# Altium footprint library JST-GH.PcbLib: 8 footprints
Each footprint in its own frame and in the unit in brackets; x right, y up, seen from the top. Pads: shape width x height; smd on the part's side, far side on the other; paste and mask are expansions set on the pad; w line width, h text height; cw(c..) or ccw(c..) is an arc to the next point about the centre after c.
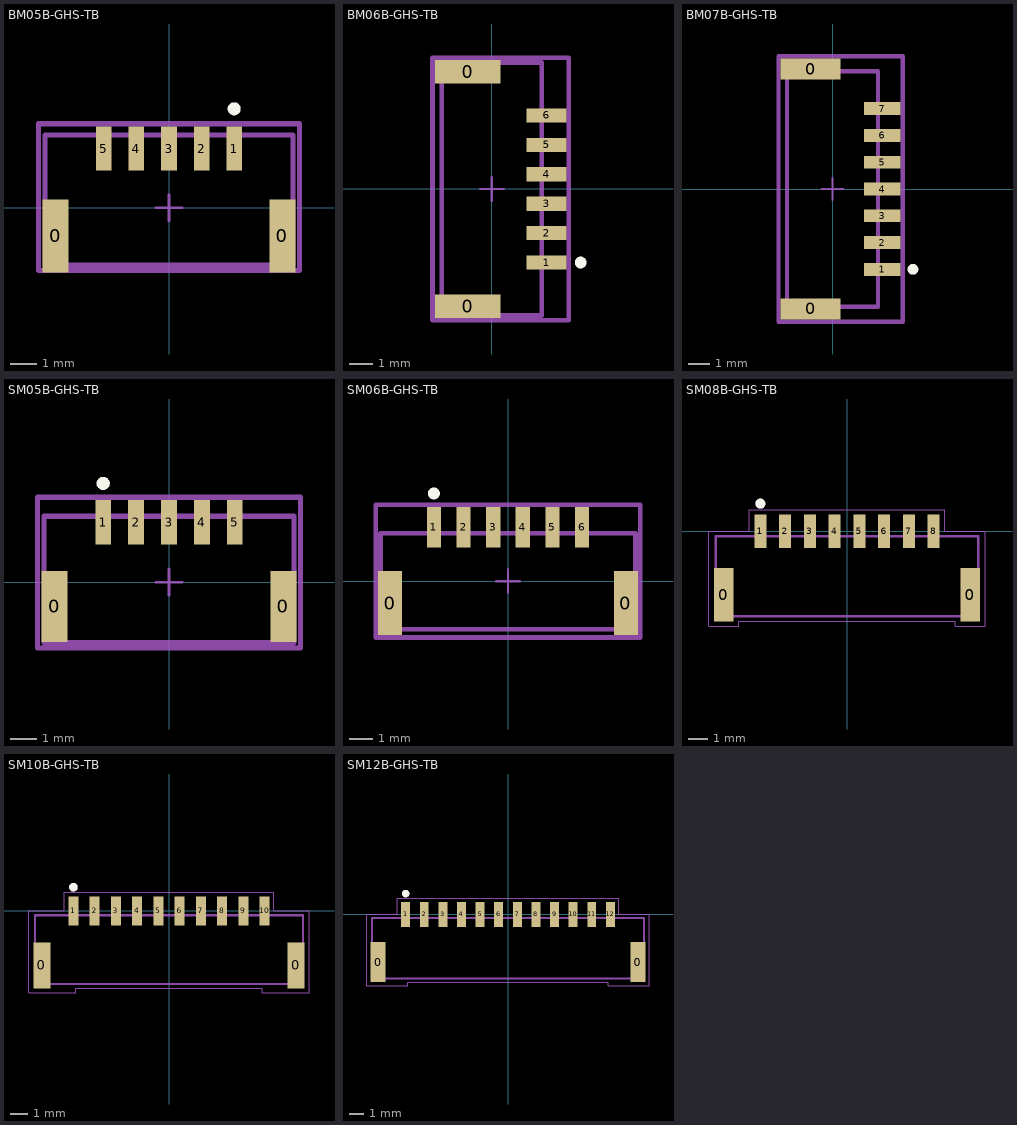
[diagram p0: the footprints below, top view; thin cyan lines are the x and y axes]

## BM05B-GHS-TB [mm]
height 4.064
pads (7):
  rect 1x2.8 smd paste+0 mask+0: 0(-4.35,-1.075) 0(4.35,-1.075)
  rect 0.6x1.7 smd paste+0 mask+0: 1(2.5,2.275) 2(1.25,2.275) 3(0,2.275) 4(-1.25,2.275) 5(-2.5,2.275)
Top Overlay:
  circle w0.25: c2.5,3.8 r0.125
Top 3D Body:
  lines w0.2: -4.75,-2.2 -4.75,2.8 4.75,2.8 4.75,-2.2 -4.75,-2.2
Top Courtyard:
  lines w0.2: -5,-2.4 -5,3.225 5,3.225 5,-2.4 -5,-2.4
Top Component Center:
  lines w0.1: -0.5,0 0.5,0 ; 0,-0.5 0,0.5
3D body "BM05B-GHS-TBT.STEP": height 4.05, standoff -0.15, extent -4.75,-2.175 4.75,2.775

## BM06B-GHS-TB [mm] "CONN HEADER SMD 6POS 1.25MM"
pads (8):
  rect 2.8x1 smd paste+0 mask+0: 0(-1.025,-4.975) 0(-1.025,4.975)
  rect 1.7x0.6 smd paste+0 mask+0: 1(2.325,-3.125) 2(2.325,-1.875) 3(2.325,-0.625) 4(2.325,0.625) 5(2.325,1.875) 6(2.325,3.125)
Top Overlay:
  circle w0.25: c3.775,-3.125 r0.125
Top 3D Body:
  lines w0.2: -2.125,-5.375 -2.125,5.375 2.125,5.375 2.125,-5.375 -2.125,-5.375
Top Courtyard:
  lines w0.2: -2.525,-5.575 -2.525,5.575 3.275,5.575 3.275,-5.575 -2.525,-5.575
Top Assembly:
  lines w0.2: -2.525,-5.575 -2.525,5.575 3.275,5.575 3.275,-5.575 -2.525,-5.575
Top Component Center:
  lines w0.1: -0.5,0 0.5,0 ; 0,-0.5 0,0.5
3D body "Conn_JST_BM06B-GHS-TBT_LF_SN_eec.STEP": height 0.25, standoff 0, extent -2.525,-5.575 3.275,5.575

## BM07B-GHS-TB [mm] "CONN HEADER SMD 7POS 1.25MM"
pads (9):
  rect 2.8x1 smd paste+0 mask+0: 0(-1.025,-5.6) 0(-1.025,5.6)
  rect 1.7x0.6 smd paste+0 mask+0: 1(2.325,-3.75) 2(2.325,-2.5) 3(2.325,-1.25) 4(2.325,0) 5(2.325,1.25) 6(2.325,2.5) 7(2.325,3.75)
Top Overlay:
  circle w0.25: c3.75,-3.75 r0.125
Top 3D Body:
  lines w0.2: -2.125,-5.5 -2.125,5.5 2.125,5.5 2.125,-5.5 -2.125,-5.5
Top Courtyard:
  lines w0.2: -2.525,-6.2 -2.525,6.2 3.275,6.2 3.275,-6.2 -2.525,-6.2
Top Assembly:
  lines w0.2: -2.525,-6.2 -2.525,6.2 3.275,6.2 3.275,-6.2 -2.525,-6.2
Top Component Center:
  lines w0.1: -0.5,0 0.5,0 ; 0,-0.5 0,0.5
3D body "BM07B-GHS-TBT.STEP": height 4.05, standoff -0.15, extent -2.125,-6 2.825,6

## SM05B-GHS-TB [mm]
height 4.064
pads (7):
  rect 1x2.7 smd paste+0 mask+0: 0(-4.35,-0.925) 0(4.35,-0.925)
  rect 0.6x1.7 smd paste+0 mask+0: 1(-2.5,2.275) 2(-1.25,2.275) 3(0,2.275) 4(1.25,2.275) 5(2.5,2.275)
Top Overlay:
  circle w0.25: c-2.5,3.75 r0.125
Top 3D Body:
  lines w0.2: -4.75,-2.3 4.75,-2.3 4.75,2.5 -4.75,2.5 -4.75,-2.3
Top Courtyard:
  lines w0.2: -5,-2.5 5,-2.5 5,3.225 -5,3.225 -5,-2.5
Top Component Center:
  lines w0.1: -0.5,0 0.5,0 ; 0,-0.5 0,0.5
3D body "SM05B-GHS-TB.STEP": height 4.25, standoff 0, extent -4.75,-2.298 4.75,2.552

## SM06B-GHS-TB [mm]
height 4.064
pads (8):
  rect 1x2.7 smd paste+0 mask+0: 0(-4.975,-0.925) 0(4.975,-0.925)
  rect 0.6x1.7 smd paste+0 mask+0: 1(-3.125,2.275) 2(-1.875,2.275) 3(-0.625,2.275) 4(0.625,2.275) 5(1.875,2.275) 6(3.125,2.275)
Top Overlay:
  circle w0.25: c-3.125,3.7 r0.125
Top 3D Body:
  lines w0.2: -5.375,-2.025 -5.375,2.025 5.375,2.025 5.375,-2.025 -5.375,-2.025
Top Courtyard:
  lines w0.2: -5.575,-2.375 -5.575,3.225 5.575,3.225 5.575,-2.375 -5.575,-2.375
Top Assembly:
  lines w0.2: -5.575,-2.375 -5.575,3.225 5.575,3.225 5.575,-2.375 -5.575,-2.375
Top Component Center:
  lines w0.1: -0.5,0 0.5,0 ; 0,-0.5 0,0.5
3D body "Conn_JST_SM06B-GHS-TB_LF_SN_eec.STEP": height 0.25, standoff 0, extent -5.575,-2.375 5.575,3.225

## SM08B-GHS-TB [mm]
pads (10):
  rect 1x2.7 smd: 0(-6.225,-3.2) 0(6.225,-3.2)
  rect 0.6x1.7 smd: 1(-4.375,0) 2(-3.125,0) 3(-1.875,0) 4(-0.625,0) 5(0.625,0) 6(1.875,0) 7(3.125,0) 8(4.375,0)
Top Overlay:
  circle w0.3: c-4.375,1.397 r0.1
Mechanical 13:
  circle w0.3: c-4.375,1.397 r0.1
  lines w0.127: -6.625,-4.3 6.625,-4.3 6.625,-0.25 -6.625,-0.25 -6.625,-4.3
Mechanical 15:
  lines w0.05: -6.975,-4.8 -5.475,-4.8 -5.475,-4.55 5.475,-4.55 5.475,-4.8 6.975,-4.8 6.975,0 4.925,0 4.925,1.1 -4.925,1.1 -4.925,0 -6.975,0 -6.975,-4.8
3D body "SM08B-GHS-TB.stp": height 4.35, standoff 0.05, extent -6.625,-4.318 6.625,0.532

## SM10B-GHS-TB [mm]
pads (12):
  rect 1x2.7 smd: 0(-7.475,-3.2) 0(7.475,-3.2)
  rect 0.6x1.7 smd: 1(-5.625,0) 2(-4.375,0) 3(-3.125,0) 4(-1.875,0) 5(-0.625,0) 6(0.625,0) 7(1.875,0) 8(3.125,0) 9(4.375,0) 10(5.625,0)
Top Overlay:
  circle w0.3: c-5.625,1.397 r0.1
Mechanical 13:
  circle w0.3: c-5.625,1.397 r0.1
  lines w0.127: -7.875,-4.3 7.875,-4.3 7.875,-0.25 -7.875,-0.25 -7.875,-4.3
Mechanical 15:
  lines w0.05: -8.25,-4.8 -5.475,-4.8 -5.475,-4.55 5.475,-4.55 5.475,-4.8 8.25,-4.8 8.25,0 6.175,0 6.175,1.1 -6.175,1.1 -6.175,0 -8.25,0 -8.25,-4.8
3D body "SM10B-GHS-TB.STEP": height 4.35, standoff 0, extent -7.875,-4.293 7.875,0.557

## SM12B-GHS-TB [mm]
pads (14):
  rect 1x2.7 smd: 0(-8.725,-3.2) 0(8.725,-3.2)
  rect 0.6x1.7 smd: 1(-6.875,0) 2(-5.625,0) 3(-4.375,0) 4(-3.125,0) 5(-1.875,0) 6(-0.625,0) 7(0.625,0) 8(1.875,0) 9(3.125,0) 10(4.375,0) 11(5.625,0) 12(6.875,0)
Top Overlay:
  circle w0.3: c-6.875,1.397 r0.1
Mechanical 13:
  circle w0.3: c-6.875,1.397 r0.1
  lines w0.127: -9.125,-4.3 9.125,-4.3 9.125,-0.25 -9.125,-0.25 -9.125,-4.3
Mechanical 15:
  lines w0.05: -9.5,-4.8 -6.725,-4.8 -6.725,-4.55 6.725,-4.55 6.725,-4.8 9.5,-4.8 9.5,0 7.425,0 7.425,1.1 -7.425,1.1 -7.425,0 -9.5,0 -9.5,-4.8
3D body "SM12B-GHS-TB.STEP": height 4.25, standoff 0, extent -9.125,-4.275 9.125,0.575